# EAGLE library part PICAXE-18M2 (library PICAXE)
PICAXE chips come in two series – the M2 and X2 series – and 6 physical sizes (8, 14, 18, 20, 28, 40 pin). Feature 08M2 14M2 18M2 20M2 20X2 28X2 40X2 Memory Capacity(bytes) 2048 2048 x2 2048 x2 2048 x2 4096 4096 x4 4096 x4 RAM (bytes) 128 512 512 512 256 1280 1280 Byte Variables (bytes) 28 28 28 28 56 56 56 Input/Outputs Pins 6 12 16 18 18 22 33 ADC/Touch Pins 3 7 10 11 11 16 27 Max. Freq. (MHz) 32 32 32 32 64 64 64 Serial In/Out Yes Yes Yes Yes Yes Yes Yes Infrared In/Out Yes Yes Yes Yes Yes Yes Yes I2C Yes Yes Yes Yes Yes Yes Yes Tune (ring tones) Yes Yes Yes Yes Yes Yes Yes Parallel Tasks 4 8 8 8 1 1 1 Program Slots 1 2 2 2 1 4 4
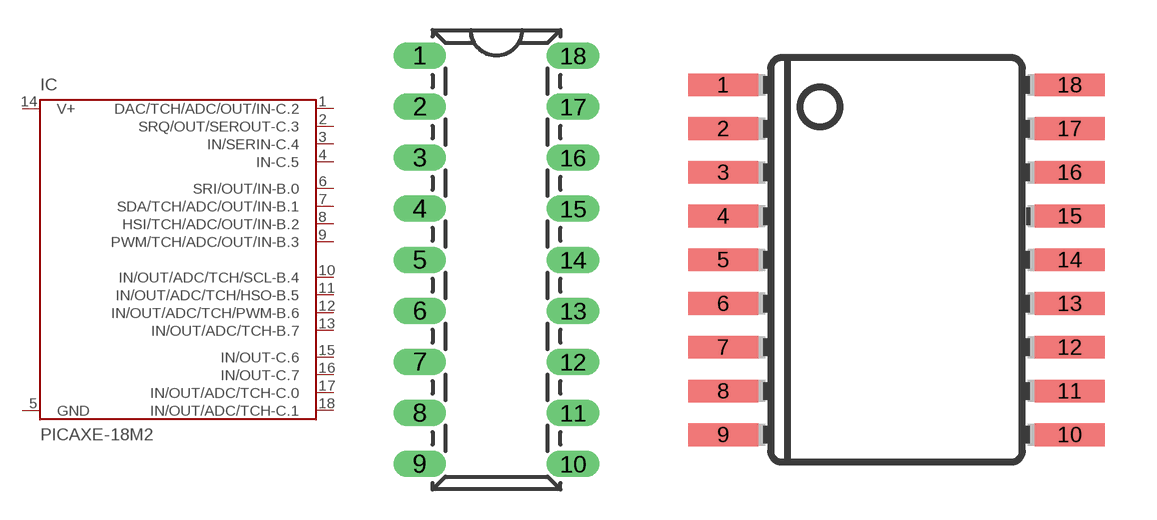
[diagram p2: symbol with the pads of DIL18; footprints DIL18, SOIC18W]

Designator prefix IC

## PICAXE-18M2-DIL  [DIL18]
1  DAC/TCH/ADC/OUT/IN-C.2
2  SRQ/OUT/SEROUT-C.3  out
3  IN/SERIN-C.4  in
4  IN-C.5  in
5  GND  pwr
6  SRI/OUT/IN-B.0
7  SDA/TCH/ADC/OUT/IN-B.1
8  HSI/TCH/ADC/OUT/IN-B.2
9  PWM/TCH/ADC/OUT/IN-B.3
10  IN/OUT/ADC/TCH/SCL-B.4
11  IN/OUT/ADC/TCH/HSO-B.5
12  IN/OUT/ADC/TCH/PWM-B.6
13  IN/OUT/ADC/TCH-B.7
14  V+  pwr
15  IN/OUT-C.6
16  IN/OUT-C.7
17  IN/OUT/ADC/TCH-C.0
18  IN/OUT/ADC/TCH-C.1

## PICAXE-18M2-SMD  [SOIC18W]
Pads as for DIL18

## Footprint DIL18 (pad centres in mm)
drill 0.8 pad 1.27 long: 1 -3.81,10.16; 2 -3.81,7.62; 3 -3.81,5.08; 4 -3.81,2.54; 5 -3.81,0; 6 -3.81,-2.54; 7 -3.81,-5.08; 8 -3.81,-7.62; 9 -3.81,-10.16; 10 3.81,-10.16; 11 3.81,-7.62; 12 3.81,-5.08; 13 3.81,-2.54; 14 3.81,0; 15 3.81,2.54; 16 3.81,5.08; 17 3.81,7.62; 18 3.81,10.16

## Footprint SOIC18W (pad centres in mm)
smd 2.032 x 0.66: 1 -5.029,5.08; 2 -5.029,3.81; 3 -5.029,2.54; 4 -5.029,1.27; 5 -5.029,0; 6 -5.029,-1.27; 7 -5.029,-2.54; 8 -5.029,-3.81; 9 -5.029,-5.08; 10 5.029,-5.08; 11 5.029,-3.81; 12 5.029,-2.54; 13 5.029,-1.27; 14 5.029,0; 15 5.029,1.27; 16 5.029,2.54; 17 5.029,3.81; 18 5.029,5.08